# EAGLE library part MOLEX-M6 (library CaliBeta-Conectores)
Conector ZCN de 5 pines, separacion 2.54mm
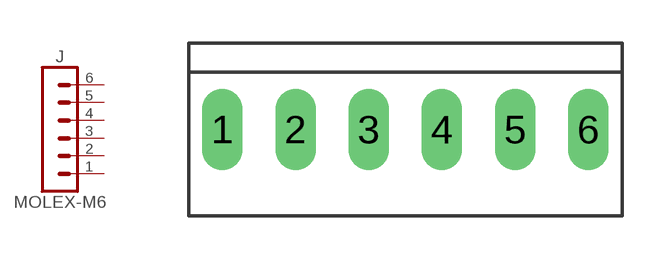
[diagram p5: symbol with the pads of MOLEX-2.54MM-M6; footprint MOLEX-2.54MM-M6]

Designator prefix J

## MOLEX-M6  [MOLEX-2.54MM-M6]
1  1  pas
2  2  pas
3  3  pas
4  4  pas
5  5  pas
6  6  pas

## Footprint MOLEX-2.54MM-M6 (pad centres in mm)
drill 0.9 long: 1 -6.35,0; 2 -3.81,0; 3 -1.27,0; 4 1.27,0; 5 3.81,0; 6 6.35,0